# Altium schematic symbol library RDM_ALT_SCH.SchLib: 270 symbols (part 1 of 4)
Pins are listed as number, name and electrical type; pins without a type are passive.

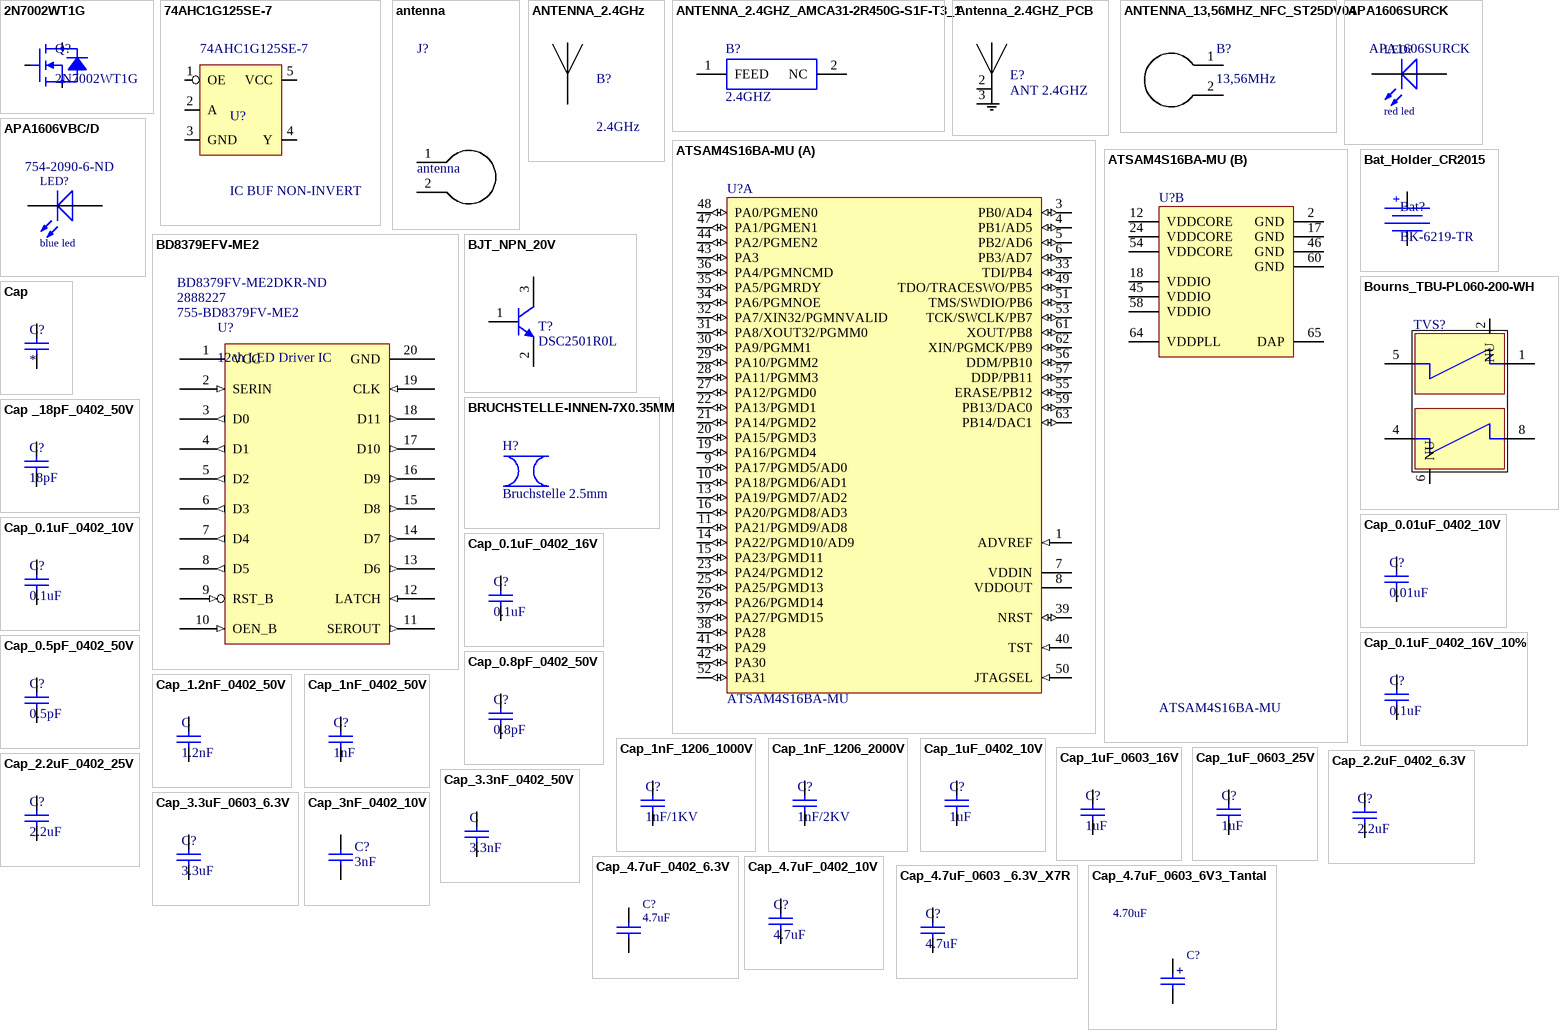
[diagram p0: symbols 2N7002WT1G to Cap_4.7uF_0603_6V3_Tantal]

## 2N7002WT1G
designator Q?
N-Channel 60V 310mA (Ta) 280mW (Tj) Surface Mount SC-70-3 (SOT323); Manufacturer: ON Semiconductor; tolerance: NA; Replaceable: no; value: 2N7002WT1G; voltage: 60V; Manufacturer PartNr: 2N7002WT1G; Footprint/Package: SC-70, SOT-323; Dielectric Grade: NA; ComponentLink1Description: mouser; ComponentLink1URL: https://www.mouser.ch/ProductDetail/Murata-Electronics/GCM155C71A105KE38D?qs=sGAEpiMZZMsh%252b1woXyUXj0FEAttKcN54ouz5zO04smg%3d; Supplier Part Number 1: 2N7002WT1GOSCT-ND; Supplier 1: Digi-Key; power: 280mW
footprint SOT323_2N7002WT1G (N_MOSFET)
pins: 1, 2, 3

## 74AHC1G125SE-7
designator U?, comment IC BUF NON-INVERT  Manufacturer PartNr: 74AHC1G125SE-7
Buffer, Non-Inverting 1 Element 1 Bit per Element 3-State Output SOT-353; Manufacturer: Diodes Incorporated; Replaceable: no; Footprint/Package: SOT353; ComponentLink1Description: mouser; ComponentLink1URL: https://www.mouser.ch/ProductDetail/Samtec/BBL-103-G-E?qs=sGAEpiMZZMs%252bGHln7q6pm5ZHNJhTjtr3eyJKd0ZImQM%3d; Supplier 2: Mouser; Supplier 1: Digi-Key; Supplier 3: Farnell; Supplier Part Number 1: SAM1104-03-ND; Supplier Part Number 2: 200-SL103G12; Supplier Part Number 3: 2019491
footprint SOT353
pins: 1 OE, 2 A, 3 GND, 4 Y, 5 VCC

## antenna
designator J?  (net tie)
Replaceable: no; Footprint/Package: *
footprint antenna_1_layer (antenna 1 layer)
footprint antenna_1_layer_2_rectangles_vers1 (antenna 1 layer)
footprint antenna_1_layer_2_sprials_vers1 (antenna 1 layer)
footprint antenna_1_layer_2_sprials_vers2 (antenna 1 layer)
footprint antenna_1_layer_2_sprials_vers3 (antenna 1 layer)
footprint antenna_1_layer_2_sprials_vers4 (antenna 1 layer)
footprint antenna_1_layer_3_sprials_vers1 (antenna 1 layer)
footprint antenna_1_layer_3_sprials_vers2 (antenna 1 layer)
footprint antenna_2_layer_2_sprials_vers1 (antenna 2 layer)
footprint antenna_2_layer_2_sprials_vers2 (antenna 2 layer)
pins: 1, 2

## ANTENNA_2.4GHz
designator B?, comment 2.4GHz
2.4 GHz PCB antenna for nordic nRF52811 chip; Remark: Adopted from Nordic nRF52811 reference layout; Replaceable: no; value: PCB Antenna (2.4GHz); Manufacturer PartNr: N/A; Manufacturer_Part_Number: N/A; Supplier 1: N/A; Supplier Part Number 1: N/A; Datasheet Link: https://infocenter.nordicsemi.com/index.jsp?topic=%2Fps_nrf52811%2Fref_circuitry.html; Footprint/Package: See datasheet
footprint ANTENNA_PAD_nRF52811 (open end one wire antenna for 2.4GHz)
pins: 1

## ANTENNA_2.4GHZ_AMCA31-2R450G-S1F-T3_1
designator B?, comment 2.4GHZ
ABRACON - AMCA31-2R450G-S1F-T3 - ANTENNA, CHIP, 2.45GHZ, 50 OHM, 1206; Geometry.Height: 1.4mm; Manufacturer_Name: ABRACON; Manufacturer_Part_Number: AMCA31-2R450G-S1F-T3; RS Part Number: *; RS Price/Stock: *; Arrow Part Number: AMCA31-2R450G-S1F-T3; Arrow Price/Stock: https://www.arrow.com/en/products/amca31-2r450g-s1f-t3/abracon; Datasheet Link: http://www.abracon.com/chip-antenna/AMCA31-2R450G-S1F-T.pdf
footprint ANTC3216X140N
pins: 1 FEED, 2 NC

## Antenna_2.4GHZ_PCB
designator E?, comment ANT 2.4GHZ
2,4GHz Bluetooth, Wi-Fi, Zigbee PCB HF-Antenna,1dBi SMD, Antenova; Manufacturer Part Number: A5839; Replaceable: no; Package: None; Manufacturer: Antenova; value: ANT 2.4GHZ; Supplier 1: Digi-Key; Supplier Part Number 1: 627-1011-1-ND; Footprint/Package: specific see datasheet; tolerance: -; power: -; Dielectric Grade: -; voltage: -
footprint XCVR_A5839 (RF ANT 2.4GHZ Antenova)
pins: 2 FED, 3 GND

## ANTENNA_13,56MHZ_NFC_ST25DV04
designator B?, comment 13,56MHz
Rectangular NFC (13,56MHZ) Antenna; Replaceable: no; Remark: Adopted from Texas Instruments tidu378a.pdf  reference design.; value: NFC Antenna (13.46MHz); Footprint/Package: See datasheet; Manufacturer: N/A; Manufacturer PartNr: N/A; Supplier 1: N/A; Supplier Part Number 1: N/A; Datasheet Link: http://www.ti.com/lit/ug/tidu378a/tidu378a.pdf
footprint ANTENNA_ST25_2_LAYER_1_RECT (3,56 MHZ NFC Antenna for Nordic ST25DV04K)
pins: 1, 2

## APA1606SURCK
designator LED?, comment red led  Manufacturer PartNr: APA1606SURCK
Red 630nm LED Indication - Discrete 1.95V 2-SMD, No Lead; Manufacturer: Kingbright; Replaceable: yes; Footprint/Package: specific, see datasheet; ComponentLink1Description: mouser; ComponentLink1URL: https://www.mouser.ch/ProductDetail/Kingbright/APA1606VBC-D?qs=%2fha2pyFaduhFkLoQLKawdk3E%252bl3FgSOr3Fif4NOc1lJmKkWDM5WlaQ%3d%3d; Supplier 1: Digi-Key; Supplier Part Number 1: 754-2090-6-ND
footprint Kingbright_SMD_2_RWH
footprint Kingbright_SMD_2_RWH_NETSCALE72_SENSORBAR (Kingbright_SMD_2_RWH)
pins: 1 K, 2 A

## APA1606VBC/D
designator LED?, comment blue led  Supplier Part Number 1: 754-2090-6-ND
blue, 1.6 x 0.6 mm Right Angle SMD Chip LED Lamp; Manufacturer: Kingbright; Manufacturer PartNr: APA1606VBC/D; Replaceable: yes; Footprint/Package: specific, see datasheet; ComponentLink1Description: mouser; ComponentLink1URL: https://www.mouser.ch/ProductDetail/Kingbright/APA1606VBC-D?qs=%2fha2pyFaduhFkLoQLKawdk3E%252bl3FgSOr3Fif4NOc1lJmKkWDM5WlaQ%3d%3d; Supplier 1: Digi-Key
footprint Kingbright_SMD_2_RWH
pins: 1 K, 2 A

## ATSAM4S16BA-MU
designator U?
AT91 ARM Cortex-M4 32-bit Microcontroller, 1MB Flash, 128KB SRAM, USB, 79 User I/Os, 64-Pin QFN, Industrial Grade (-40°C to 105°C), Pb-Free; Manufacturer: Atmel; Replaceable: no; DatasheetVersion: revA, Oct-2011; PackageVersion: revJ, Jul-2007; PackageReference: 64PS; PackageDescription: 64-Pin Quad Flat No-Lead (QFN) Sawn, 9 x 9 x 1.0 mm Body, 0.5 mm Pitch, Exposed Pad; Code_JEDEC: MO-220VMMD-3; ComponentLink1Description: Manufacturer URL; ComponentLink1URL: http://www.atmel.com/; ComponentLink2Description: SAM4S Series Datasheet; ComponentLink2URL: http://www.atmel.com/dyn/resources/prod_documents/11100.pdf; ComponentLink3Description: SAM4S Series Summary; ComponentLink3URL: http://www.atmel.com/dyn/resources/prod_documents/11100S.pdf; Manufacturer PartNr: ATSAM4S16BA-MU; Footprint/Package: QFN, 64-Leads, Body 9x9mm, Pitch 0.5mm, Thermal Pad 7.5x7.5mm, IPC Medium Density
footprint 64PS_N
part A pins: 1 ADVREF (in), 3 PB0/AD4 (io), 4 PB1/AD5 (io), 5 PB2/AD6 (io), 6 PB3/AD7 (io), 7 VDDIN (power), 8 VDDOUT (power), 9 PA17/PGMD5/AD0 (io), 10 PA18/PGMD6/AD1 (io), 11 PA21/PGMD9/AD8 (io), 13 PA19/PGMD7/AD2 (io), 14 PA22/PGMD10/AD9 (io), 15 PA23/PGMD11 (io), 16 PA20/PGMD8/AD3 (io), 19 PA16/PGMD4 (io), 20 PA15/PGMD3 (io), 21 PA14/PGMD2 (io), 22 PA13/PGMD1 (io), 23 PA24/PGMD12 (io), 25 PA25/PGMD13 (io), 26 PA26/PGMD14 (io), 27 PA12/PGMD0 (io), 28 PA11/PGMM3 (io), 29 PA10/PGMM2 (io), 30 PA9/PGMM1 (io), 31 PA8/XOUT32/PGMM0 (io), 32 PA7/XIN32/PGMNVALID (io), 33 TDI/PB4 (io), 34 PA6/PGMNOE (io), 35 PA5/PGMRDY (io), 36 PA4/PGMNCMD (io), 37 PA27/PGMD15 (io), 38 PA28 (io), 39 NRST (io), 40 TST (in), 41 PA29 (io), 42 PA30 (io), 43 PA3 (io), 44 PA2/PGMEN2 (io), 47 PA1/PGMEN1 (io), 48 PA0/PGMEN0 (io), 49 TDO/TRACESWO/PB5 (io), 50 JTAGSEL (in), 51 TMS/SWDIO/PB6 (io), 52 PA31 (io), 53 TCK/SWCLK/PB7 (io), 55 ERASE/PB12 (io), 56 DDM/PB10 (io), 57 DDP/PB11 (io), 59 PB13/DAC0 (io), 61 XOUT/PB8 (io), 62 XIN/PGMCK/PB9 (io), 63 PB14/DAC1 (io)
part B pins: 2 GND (power), 12 VDDCORE (power), 17 GND (power), 18 VDDIO (power), 24 VDDCORE (power), 45 VDDIO (power), 46 GND (power), 54 VDDCORE (power), 58 VDDIO (power), 60 GND (power), 64 VDDPLL (power), 65 DAP (power)

## Bat_Holder_CR2015
designator Bat?, comment BK-6219-TR
Battery retainer coin 20mm SMD (CR2025); Manufacturer: MPD (Memory Protection Devices); Replaceable: no; value: Bat retainer; ComponentLink1Description: digykey; ComponentLink1URL: https://www.digikey.ch/product-detail/de/mpd-memory-protection-devices/BK-6219-TR/BK-6219-TR-ND/8119239; Footprint/Package: See datasheet; Manufacturer PartNr: BK-6219-TR; Supplier 1: Digi-Key; Supplier Part Number 1: BK-6219-TR-ND; Datasheet Link: http://www.memoryprotectiondevices.com/datasheets/BK-6219-TR-datasheet.pdf
footprint BAT_HOLDER_CR2025 (BATTERY RETAINER COIN 20MM SMD)
pins: 1, 2
text: +

## BD8379EFV-ME2
designator U?, comment 12ch LED Driver IC  Supplier Part Number 1: 755-BD8379FV-ME2  Supplier Part Number 2: 2888227  Supplier Part Number 3: BD8379FV-ME2DKR-ND
LED Lighting Drivers 12ch LED Drvr IC 3-5.5V; HTSSOP-B20; Manufacturer: ROHM Semiconductor; Manufacturer PartNr: BD8379FV-ME2; Replaceable: no; ComponentLink1Description: mouser; ComponentLink1URL: https://www.mouser.ch/ProductDetail/ROHM-Semiconductor/BD8379FV-ME2?qs=sGAEpiMZZMsE420DPIasPr3Oyx8hJUvEOZy8Z%252b2LZIkkhTSvSLIdLA%3d%3d; Footprint/Package: SSOP-B-20; Supplier 1: Mouser; Supplier 2: Farnell; Supplier 3: Digi-Key
footprint BD8379EFV-ME2_HTSSOP-B20 (TSOP, 20-Leads, Body 6.40x4.40mm, Pitch 0.65mm, IPC Medium Density)
pins: 1 VCC (power), 2 SERIN (in), 3 D0 (out), 4 D1 (out), 5 D2 (out), 6 D3 (out), 7 D4 (out), 8 D5 (out), 9 RST_B (in), 10 OEN_B (in), 11 SEROUT (out), 12 LATCH (in), 13 D6 (out), 14 D7 (out), 15 D8 (out), 16 D9 (out), 17 D10 (out), 18 D11 (out), 19 CLK (in), 20 GND

## BJT_NPN_20V
designator T?, comment DSC2501R0L
Bipolar (BJT) Transistor NPN 20V 500mA 150MHz 200mW Surface Mount Mini3-G3-B-B; Manufacturer: Panasonic Electronic Components; Replaceable: no; Supplier 1: Digi-Key; Manufacturer PartNr: DSC2501R0L; Footprint/Package: TO-236-3, SC-59, SOT-23-3; Supplier Part Number 1: DSC2501R0LCT-ND; value: DSC2501R0L; voltage: 20V
footprint SOT-23/TO-236AA (TRANS NPN 20V 0.5A MINI3)
pins: 1 B, 2 E, 3 C

## Bourns_TBU-PL060-200-WH
designator TVS?, comment TBU-CA065-200-WH  (value not drawn)
TBU-PL Series dual 50 ohm Surge Suppressors, bi-directional; Manufacturer: Bourns; Manufacturer PartNr: TBU-PL060-200-WH; Replaceable: no; value: TBU-PL060-200-WH; voltage: 350V; power: NA; Supplier 1: Mouser; Footprint/Package: DFN; Supplier Part Number 1: 652-TBU-PL060-200-WH; Dielectric Grade: NA
footprint Bourns_TBU_PL060_WH (TBU-PL060-200-WH)
pins: 1, 2 NU, 4, 5, 6 NU, 8

## BRUCHSTELLE-INNEN-7X0.35MM
designator H?, comment Bruchstelle 2.5mm
Bruchstelle 3mm; Manufacturer: NK; Manufacturer PartNr: Bruchstelle 3mm; ShortDescription: Bruchstelle 3mm
footprint Bruchstelle_7X0.5MM

## Cap
designator C?
Multilayer Ceramic Capacitors MLCC; value: *; tolerance: *; voltage: *; Replaceable: *; Dielectric Grade: *; Manufacturer: *; Manufacturer PartNr: *; Footprint/Package: *
footprint Ceramic Capacitor 1210 EIA
footprint Ceramic Capacitor 1206 EIA
footprint Ceramic Capacitor 0805 EIA
footprint Ceramic Capacitor 0603 EIA
footprint Ceramic Capacitor 0402 EIA
pins: 1, 2

## Cap _18pF_0402_50V
designator C?, comment 18pF
18pF ±5% 50V Ceramic Capacitor C0G, NP0 0402 (1005 Metric), Murata; Manufacturer PartNr: GJM1555C1H180JB01D; Dielectric: C0G/NP0; voltage: 50VDC; Replaceable: no; Supplier 1: Digi-Key; Supplier Part Number 1: 490-3119-2-ND; Manufacturer: Murata; Footprint/Package: 0402 (1005 metric); value: 18pF; tolerance: 5%; ComponentLink1URL: http://search.murata.co.jp/Ceramy/image/img/A01X/G101/ENG/GJM1555C1H180JB01-01.pdf; ComponentLink1Description: http://search.murata.co.jp/Ceramy/image/img/A01X/G101/ENG/GJM1555C1H180JB01-01.pdf
pins: 1, 2

## Cap_0.01uF_0402_10V
designator C?, comment 0.01uF
SMD/SMT WCAP-CSGP 0.01uF 0402 10% 10V MLCC; Manufacturer: Wurth Electronics; Manufacturer PartNr: 885012205012; voltage: 10VDC; Replaceable: yes; Dielectric Grade: X7R; value: 0.01uF; tolerance: 10%; ComponentLink1Description: mouser; ComponentLink1URL: https://www.mouser.ch/ProductDetail/Wurth-Electronics/885012205012?qs=%2fha2pyFadugw7Bx5e6Fm8E9Tl5BwARhs%2fZgZBwU9Lt9i4SI58FWkO%2fGWTrc%2fVjVaOTikVrFA6u%2fDYyVQwAJERsgVVqUKkSXa; Footprint/Package: 0402; Supplier 1: Mouser; Supplier 2: Farnell; Supplier 3: Digi-Key; Supplier Part Number 3: 732-7507-1-ND; Supplier Part Number 2: 2533974; Supplier Part Number 1: 710-885012205012
footprint Ceramic Capacitor 0402 EIA
pins: 1, 2

## Cap_0.1uF_0402_10V
designator C?, comment 0.1uF
0.1µF ±20% 10V Ceramic Capacitor X5R 0402 (1005 Metric); Manufacturer: Wurth Electronics; Manufacturer PartNr: 885012105010; voltage: 10VDC; Replaceable: yes; value: 0.1uF; tolerance: 20%; Footprint/Package: 0402; Dielectric Grade: X5R; ComponentLink1Description: mouser; ComponentLink1URL: https://www.mouser.ch/ProductDetail/Wurth-Electronics/885012105010?qs=sGAEpiMZZMs0AnBnWHyRQEGbLOF2VP1ihL84oCjXnlO407YOHi%2fQbw%3d%3d; Supplier 3: Mouser; Supplier 2: Farnell; Supplier 1: Digi-Key; Supplier Part Number 1: 732-7487-1-ND; Supplier Part Number 2: 2533928; Supplier Part Number 3: 710-885012105010
footprint Ceramic Capacitor 0402 EIA
pins: 1, 2

## Cap_0.1uF_0402_16V
designator C?, comment 0.1uF
0.1µF ±20% 16V Ceramic Capacitor X7R 0402 (1005 Metric); Manufacturer: KEMET; Manufacturer PartNr: C0402C104M4RACAUTO; voltage: 16VDC; Replaceable: yes; value: 0.1uF; tolerance: 20%; Footprint/Package: 0402 (1005 Metric); Dielectric Grade: X7R; ComponentLink1Description: mouser; ComponentLink1URL: https://www.mouser.ch/ProductDetail/KEMET/C0402C104M4RACAUTO?qs=sGAEpiMZZMs0AnBnWHyRQB295tntAovf0Dzw3tVX6zRfKTwHFThmZw%3d%3d; Supplier 1: Digi-Key; Supplier Part Number 1: 399-13707-1-ND
footprint Ceramic Capacitor 0402 EIA
pins: 1, 2

## Cap_0.1uF_0402_16V_10%
designator C?, comment 0.1uF
0.1µF ±10% 16V Ceramic Capacitor X7R 0402 (1005 Metric); Manufacturer: Yageo; Manufacturer PartNr: CC0402KRX7R7BB104; voltage: 16VDC; Replaceable: yes; value: 0.1uF; tolerance: 10%; Footprint/Package: 0402 (1005 Metric); Dielectric Grade: X7R; ComponentLink1Description: mouser; ComponentLink1URL: https://www.mouser.ch/ProductDetail/KEMET/C0402C104M4RACAUTO?qs=sGAEpiMZZMs0AnBnWHyRQB295tntAovf0Dzw3tVX6zRfKTwHFThmZw%3d%3d; Supplier 1: Digi-Key; Supplier Part Number 1: 311-1338-1-ND
footprint Ceramic Capacitor 0402 EIA
pins: 1, 2

## Cap_0.5pF_0402_50V
designator C?, comment 0.5pF
0.5pF ±0.05pF 50V Ceramic Capacitor C0G, NP0 0402 (1005 Metric), Murata; Manufacturer PartNr: GJM1555C1HR50WB01D; Dielectric Grade: C0G/NP0; Voltage: 50 VDC; Replaceable: yes; Supplier 1: Digi-Key; Supplier Part Number 1: 490-11250-1-ND; Manufacturer: Murata; Footprint/Package: 0402 (1005 metric); value: 0.5pF; tolerance: ±0.05pF; power: -; ComponentLink1Description: Datasheet; ComponentLink1URL: https://search.murata.co.jp/Ceramy/image/img/A01X/G101/ENG/GJM1555C1HR50WB01-01.pdf
footprint Ceramic Capacitor 0402 EIA
pins: 1, 2

## Cap_0.8pF_0402_50V
designator C?, comment 0.8pF
0.8pF ±0.1pF 50V Ceramic Capacitor C0G, NP0 0402 (1005 Metric); Manufacturer: Murata; Manufacturer PartNr: GJM1555C1HR80BB01D; Dielectric Grade: C0G/NP0; Voltage: 50 VDC; Replaceable: yes; Supplier 1: Digi-Key; Supplier Part Number 1: 490-6080-1-ND; Footprint/Package: 0402 (1005 metric); value: 0.8pF; ComponentLink1URL: http://search.murata.co.jp/Ceramy/image/img/A01X/G101/ENG/GJM1555C1HR80BB01-01.pdf; ComponentLink1Description: http://search.murata.co.jp/Ceramy/image/img/A01X/G101/ENG/GJM1555C1HR80BB01-01.pdf; ComponentLink2URL: http://search.murata.co.jp/Ceramy/image/img/w_hinm/L0005E.pdf; ComponentLink2Description: http://search.murata.co.jp/Ceramy/image/img/w_hinm/L0005E.pdf; ComponentLink3URL: http://psearch.murata.com/capacitor/product/GJM1555C1HR80BB01%23.pdf; ComponentLink3Description: http://psearch.murata.com/capacitor/product/GJM1555C1HR80BB01%23.pdf; ComponentLink4URL: https://www.verical.com/server-webapp/html/getDatasheet?partID=75095; ComponentLink4Description: https://www.verical.com/server-webapp/html/getDatasheet?partID=75095; tolerance: ±0.1pF; power: -
footprint Ceramic Capacitor 0402 EIA
pins: 1, 2

## Cap_1.2nF_0402_50V
designator C, comment 1.2nF
1200pF ±5% 50V Ceramic Capacitor C0G, NP0 0402 (1005 Metric); Manufracturer: KEMET; Manufacturer PartNr: C0402C122J5GACTU; voltage: 50VDC; Replaceable: yes; tolerance: 5%; ComponentLink1Description: mouser; ComponentLink1URL: https://www.mouser.ch/ProductDetail/Murata-Electronics/GRM155R60J475ME47D?qs=sGAEpiMZZMs0AnBnWHyRQIE6q%2f4qwWvwbJmEUwav8%2f4%3d; Dielectric Grade: C0G; Footprint/Package: 0402 (1005 metric); Supplier 2: Mouser; Supplier Part Number 2: 80-C0402C122J5G; value: 1.2nF; Supplier 1: Digi-Key; Supplier Part Number 1: 399-7334-1-ND
footprint Ceramic Capacitor 0402 EIA
pins: 1, 2

## Cap_1nF_0402_50V
designator C?, comment 1nF
1000pF ±20% 50V Ceramic Capacitor X5R 0402 (1005 Metric); Manufacturer: TDK Corporation; Manufacturer PartNr: C1005X5R1H102M050BA; voltage: 50VDC; Replaceable: yes; value: 1nF; tolerance: ±20%; Dielectric Grade: X5R; Footprint/Package: 0402 (1005 metric); ComponentLink1Description: digikey; ComponentLink1URL: https://www.digikey.com/product-detail/en/tdk-corporation/C1005X5R1H102M050BA/445-13843-6-ND/3959939; Supplier Part Number 1: 445-13843-1-ND; Supplier 1: Digi-Key
footprint Ceramic Capacitor 0402 EIA
pins: 1, 2

## Cap_1nF_1206_1000V
designator C?, comment 1nF/1KV
1000pF ±10% 1000V (1kV) Ceramic Capacitor X7R 1206 (3216 Metric) /; Manufacturer: KEMET; Manufacturer PartNr: C1206C102KDRACAUTO; Replaceable: yes; value: 1nF/1KV; tolerance: ±10%; voltage: 1kV; Dielectric Grade: X7R; Footprint/Package: 1206 (3216 Metric); Supplier 1: Digi-Key; Supplier Part Number 1: 399-16677-1-ND
footprint Ceramic Capacitor 1206 EIA
pins: 1, 2

## Cap_1nF_1206_2000V
designator C?, comment 1nF/2KV
1000pF ±10% 2000V (2kV) Ceramic Capacitor X7R 1206 (3216 Metric); Manufacturer: AVX Corporation; Manufacturer PartNr: 1206GC102KAZ1A; Replaceable: yes; value: 1nF/2KV; tolerance: ±10%; voltage: 2kV; Dielectric Grade: X7R; Footprint/Package: 1206 (3216 Metric); Supplier 1: Digi-Key; Supplier Part Number 1: 478-4600-1-ND
footprint Ceramic Capacitor 1206 EIA
pins: 1, 2

## Cap_1uF_0402_10V
designator C?, comment 1uF
1µF ±10% 10V Ceramic Capacitor X7S 0402 (1005 Metric); Manufacturer: Murata; Manufacturer PartNr: GCM155C71A105KE38D; voltage: 10VDC; Replaceable: yes; value: 1uF; tolerance: 10%; Footprint/Package: 0402 (1005 metric); Dielectric Grade: X7S; ComponentLink1Description: mouser; ComponentLink1URL: https://www.mouser.ch/ProductDetail/Murata-Electronics/GCM155C71A105KE38D?qs=sGAEpiMZZMsh%252b1woXyUXj0FEAttKcN54ouz5zO04smg%3d; Supplier Part Number 1: 490-13409-1-ND; Supplier 1: Digi-Key
footprint Ceramic Capacitor 0402 EIA
pins: 1, 2

## Cap_1uF_0603_16V
designator C?, comment 1uF
1µF ±10% 16V Ceramic Capacitor X5R 0603 (1608 Metric); Manufacturer: Yageo; Manufacturer PartNr: CC0603KRX5R7BB105; voltage: 16VDC; Replaceable: yes; value: 1uF; tolerance: 10%; Footprint/Package: 0603 (1608 Metric); Dielectric Grade: X5R; ComponentLink1Description: mouser; ComponentLink1URL: https://www.mouser.ch/ProductDetail/Murata-Electronics/GCM155C71A105KE38D?qs=sGAEpiMZZMsh%252b1woXyUXj0FEAttKcN54ouz5zO04smg%3d; Supplier Part Number 1: 311-1444-1-ND; Supplier 1: Digi-Key
footprint Ceramic Capacitor 0402 EIA
pins: 1, 2

## Cap_1uF_0603_25V
designator C?, comment 1uF
1µF ±10% 25V Ceramic Capacitor X5R 0603 (1608 Metric); Manufacturer: Kemet; Manufacturer PartNr: C0603C105K3PACTU; voltage: 25VDC; Replaceable: yes; value: 1uF; tolerance: 10%; Footprint/Package: 0603 (1608 metrisch); Dielectric Grade: X5R; ComponentLink1Description: mouser; ComponentLink1URL: https://www.mouser.ch/ProductDetail/Murata-Electronics/GCM155C71A105KE38D?qs=sGAEpiMZZMsh%252b1woXyUXj0FEAttKcN54ouz5zO04smg%3d; Supplier Part Number 1: 399-7846-1-ND; Supplier 1: Digi-Key
footprint Ceramic Capacitor 0603 EIA
pins: 1, 2

## Cap_2.2uF_0402_6.3V
designator C?, comment 2.2uF
Multilayer Ceramic Capacitors MLCC - SMD/SMT 0402 2.2uF 6.3volts *Derate Voltage/Temp; Manufacturer: Murata; Manufacturer PartNr: GRM155R60J225ME15D; tolerance: ±20%; voltage: 6.3VDC; Replaceable: yes; Dielectric Grade: X5R; value: 2.2uF; Footprint/Package: 0402; ComponentLink1Description: digikey; ComponentLink1URL: https://www.digikey.com/product-detail/en/murata-electronics-north-america/GRM155R61E225ME15D/490-10457-2-ND/5027542; Supplier 1: Mouser; Supplier Part Number 1: 81-GRM155R60J225ME5D
footprint Ceramic Capacitor 0402 EIA
pins: 1, 2

## Cap_2.2uF_0402_25V
designator C?, comment 2.2uF
2.2µF ±20% 25V Ceramic Capacitor X5R 0402 (1005 Metric); Manufacturer: Murata; Manufacturer PartNr: GRM155R61E225ME15D; voltage: 25VDC; Replaceable: yes; value: 2.2uF; tolerance: ±20%; Dielectric Grade: X5R; Footprint/Package: 0402; ComponentLink1Description: digikey; ComponentLink1URL: https://www.digikey.com/product-detail/en/murata-electronics-north-america/GRM155R61E225ME15D/490-10457-2-ND/5027542; Supplier 1: Digi-Key; Supplier Part Number 1: 490-10457-1-ND
footprint Ceramic Capacitor 0402 EIA
pins: 1, 2

## Cap_3.3nF_0402_50V
designator C, comment 3.3nF
Multilayer Ceramic Capacitors MLCC - SMD/SMT 0402 3300pF 50volts X7R 5%; Manufracturer: Murata Electronics; Manufacturer PartNr: GCM155R71H332JA37D; voltage: 50VDC; Replaceable: yes; tolerance: 5%; ComponentLink1Description: mouser; ComponentLink1URL: https://www.mouser.ch/ProductDetail/Murata-Electronics/GRM155R60J475ME47D?qs=sGAEpiMZZMs0AnBnWHyRQIE6q%2f4qwWvwbJmEUwav8%2f4%3d; Dielectric Grade: X7R; Footprint/Package: 0402 (1005 metric); Supplier 2: Mouser; Supplier Part Number 2: 81-GCM155R71H332JA7D; value: 3.3nF; Supplier 1: Digi-Key; Supplier Part Number 1: 490-16426-1-ND
footprint Ceramic Capacitor 0402 EIA
pins: 1, 2

## Cap_3.3uF_0603_6.3V
designator C?, comment 3.3uF
3.3µF ±20% 6.3V Ceramic Capacitor X5R 0603 (1608 Metric); Manufacturer: KEMET; Manufacturer PartNr: C0603C335M9PAC7867; voltage: 6.3VDC; Replaceable: no; Supplier 1: Digi-Key; Supplier Part Number 1: 399-5502-6-ND; Footprint/Package: 0603 (1608 metric); value: 3.3uF; Tolerance: 20%; Dielectric: X5R; ComponentLink1URL: http://uk.rs-online.com/webdocs/1528/0900766b81528d26.pdf; ComponentLink1Description: http://uk.rs-online.com/webdocs/1528/0900766b81528d26.pdf
pins: 1, 2

## Cap_3nF_0402_10V
designator C?, comment 3nF
3000pF, 3nF, ±5% 10V Ceramic Capacitor U2J 0402 (1005 Metric); Manufacturer: Murata; Manufacturer PartNr: GRM1557U1A302JA01D; Replaceable: yes; power: NA; Supplier 1: Digi-Key; Supplier Part Number 1: 490-8243-2-ND; Footprint/Package: 0402 (1005 Metric); value: 3nF; tolerance: 5%; voltage: 10V; Dielectric Grade: U2J; ComponentLink1URL: http://psearch.murata.com/capacitor/product/GRM1557U1A302JA01%23.pdf; ComponentLink1Description: http://psearch.murata.com/capacitor/product/GRM1557U1A302JA01%23.pdf; ComponentLink2URL: https://www.murata.com/~/media/webrenewal/support/library/catalog/products/capacitor/mlcc/c02e.ashx?la=en-us; ComponentLink2Description: https://www.murata.com/~/media/webrenewal/support/library/catalog/products/capacitor/mlcc/c02e.ashx?la=en-us
footprint Ceramic Capacitor 0402 EIA
pins: 1, 2

## Cap_4.7uF_0402_6.3V
designator C?, comment 4.7uF
4.7µF ±20% 6.3V Ceramic Capacitor X5R 0402 (1005 Metric); Manufacturer: Murata; Manufacturer PartNr: GRM155R60J475ME47D; voltage: 6.3VDC; Replaceable: yes; tolerance: ±20%; Supplier 1: Digi-Key; Supplier Part Number 1: 490-5915-1-ND; Dielectric Grade: X5R; value: 4.7uF; Footprint/Package: 0402 (1005 metric)
footprint CAP-0402[1005] - RFL (SMD Chip 0402 - CAP - RFL)
pins: 1 Pos, 2 Neg

## Cap_4.7uF_0402_10V
designator C?, comment 4.7uF
4.7µF ±10% 10V Ceramic Capacitor X5R 0402 (1005 Metric); Manufracturer: Samsung Electro-Mechanics; Manufacturer PartNr: CL05A475KP5NRNC; voltage: 10VDC; Replaceable: yes; tolerance: 10%; ComponentLink1Description: mouser; ComponentLink1URL: https://www.mouser.ch/ProductDetail/Murata-Electronics/GRM155R60J475ME47D?qs=sGAEpiMZZMs0AnBnWHyRQIE6q%2f4qwWvwbJmEUwav8%2f4%3d; Dielectric Grade: X5R; Footprint/Package: 0402 (1005 metric); Supplier 1: Digi-Key; Supplier Part Number 1: 1276-1480-1-ND; value: 4.7uF
footprint Ceramic Capacitor 0402 EIA
pins: 1, 2

## Cap_4.7uF_0603 _6.3V_X7R
designator C?, comment 4.7uF
4.7µF ±10% 6.3V Ceramic Capacitor X7R 0603 (1608 Metric); Manufracturer: Taiyo Yuden; Manufacturer PartNr: JMK107BB7475KA-T; voltage: 6.3VDC; Replaceable: yes; tolerance: ±10%; ComponentLink1Description: mouser; ComponentLink1URL: https://www.mouser.ch/ProductDetail/Murata-Electronics/GRM155R60J475ME47D?qs=sGAEpiMZZMs0AnBnWHyRQIE6q%2f4qwWvwbJmEUwav8%2f4%3d; Dielectric Grade: X7R; Footprint/Package: 0603 (1608 metric); Supplier 1: Digi-Key; Supplier Part Number 1: 587-5870-1-ND; value: 4.7uF
footprint Ceramic Capacitor 0402 EIA
pins: 1, 2

## Cap_4.7uF_0603_6V3_Tantal
designator C?, comment 4.70uF
4.7µF Molded Tantalum Capacitors 6.3V 0603 (1608 Metric) 7.5Ohm; Manufacturer: AVX Corporation; Manufacturer PartNr: TACL475K006XTA; Replaceable: yes; tolerance: 10 %; Dielectric Grade: TAC; voltage: 6.3V; Footprint/Package: 0603 (1608 Metric); value: 4.70uF; Supplier 1: Digi-Key; Supplier Part Number 1: 478-7522-1-ND
footprint CAPC1608X90 (TACL475K006XTA)
pins: 1 Pos, 2 Neg
text: +

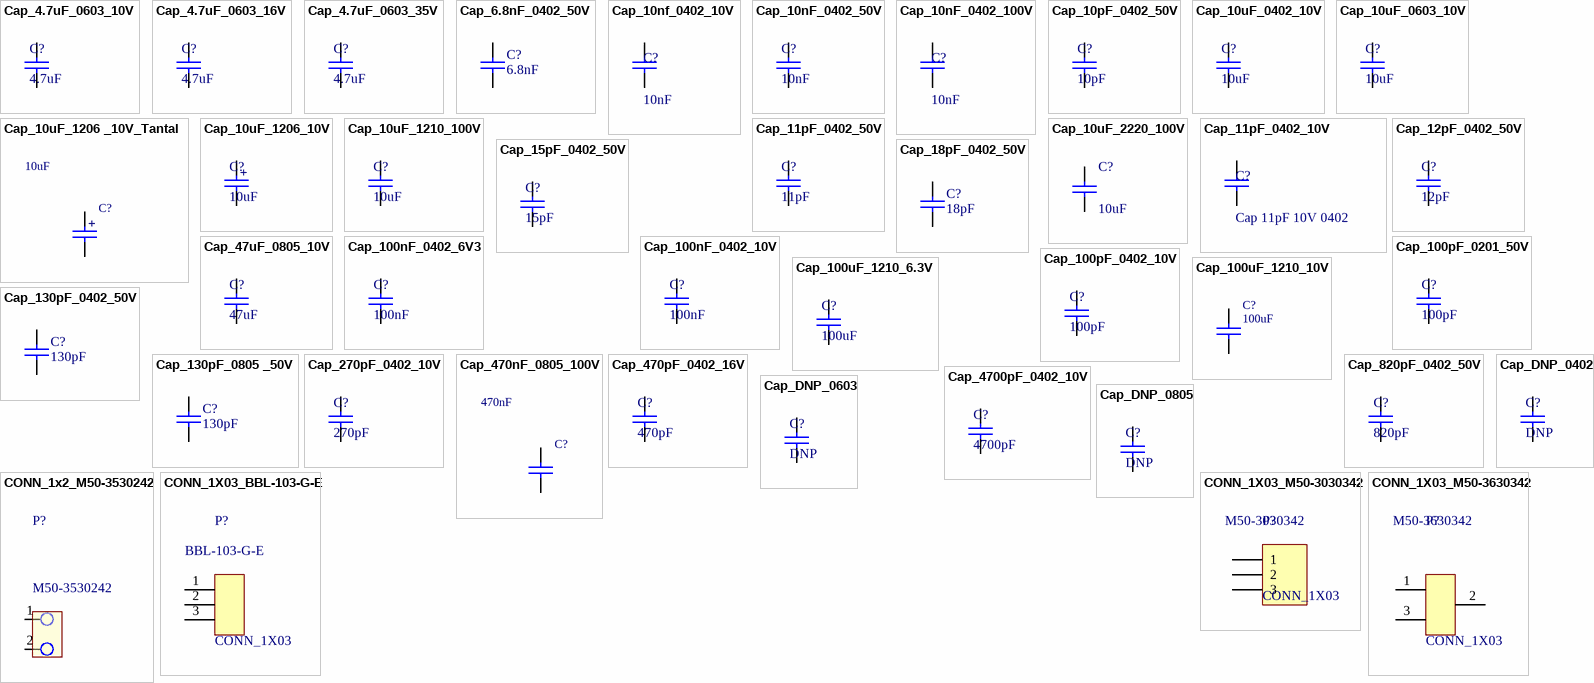
[diagram p1: symbols Cap_4.7uF_0603_10V to CONN_1X03_M50-3630342]

## Cap_4.7uF_0603_10V
designator C?, comment 4.7uF
4.7µF ±10% 10V Ceramic Capacitor X5R 0603 (1608 Metric); Manufracturer: KEMET; Manufacturer PartNr: C0603C475K8PACTU; voltage: 10VDC; Replaceable: yes; value: 4.7uF; tolerance: 10%; Dielectric Grade: X5R; Footprint/Package: 0603 (1608 metric); Supplier 1: Digi-Key; Supplier Part Number 1: 399-5503-1-ND
footprint Ceramic Capacitor 0603 EIA
pins: 1, 2

## Cap_4.7uF_0603_16V
designator C?, comment 4.7uF
4.7µF ±10% 16V Ceramic Capacitor X5R 0603 (1608 Metric); Manufracturer: Murata Electronics; Manufacturer PartNr: GRM188R61C475KAAJD; voltage: 16 VDC; Replaceable: yes; value: 4.7uF; tolerance: 10%; Dielectric Grade: X5R; Footprint/Package: 0603 (1608 metric); Supplier 1: Digi-Key; Supplier Part Number 1: 490-10481-1-ND
footprint Ceramic Capacitor 0603 EIA
pins: 1, 2

## Cap_4.7uF_0603_35V
designator C?, comment 4.7uF
4.7µF ±10% 35V Ceramic Capacitor X5R 0603 (1608 Metric); Manufracturer: Murata Electronics; Manufacturer PartNr: GRM188R6YA475KE15D; voltage: 35 VDC; Replaceable: yes; value: 4.7uF; tolerance: 10%; Dielectric Grade: X5R; Footprint/Package: 0603 (1608 metric); Supplier 1: Digi-Key; Supplier Part Number 1: 490-7205-1-ND; power: -
footprint Ceramic Capacitor 0603 EIA
pins: 1, 2

## Cap_6.8nF_0402_50V
designator C?, comment 6.8nF
6800pF ±10% 50V Ceramic Capacitor X7R 0402 (1005 Metric); Manufacturer: KEMET; Manufacturer PartNr: C0402C682K5RACTU; voltage: 50VDC; Replaceable: yes; Supplier 1: Digi-Key; Supplier Part Number 1: 399-3074-1-ND; Footprint/Package: 0402 (1005 metric); tolerance: 10%; value: 6.8nF; ComponentLink1URL: http://www.mouser.com/ds/2/400/lcc_commercial_general_en-837201.pdf; ComponentLink1Description: http://www.mouser.com/ds/2/400/lcc_commercial_general_en-837201.pdf; ComponentLink2URL: https://product.tdk.com/info/en/documents/chara_sheet/C1005X7R1H682K050BA.pdf; ComponentLink2Description: https://product.tdk.com/info/en/documents/chara_sheet/C1005X7R1H682K050BA.pdf; ComponentLink3URL: https://product.tdk.com/en/products/common/pdf/mlcc_partnumber_description.pdf; ComponentLink3Description: https://product.tdk.com/en/products/common/pdf/mlcc_partnumber_description.pdf; Dielectric Grade: X7R
footprint Ceramic Capacitor 0402 EIA
pins: 1, 2

## Cap_10nf_0402_10V
designator C?, comment 10nF
0.01uF, 10V, Ceramic Capa, SMD/SMT 10V X5R 0402 10%; Manufacturer: KMET; Manufacturer PartNr: C0402C103K8PAC7867; voltage: 10VDC; Replaceable: yes; Technology: SMT; Footprint/Package: 0402 (1005 Metric); Dielectric Grade: X5R; value: 10nF; tolerance: ±10%; Supplier 1: Digi-Key; Supplier Part Number 1: 399-14869-1-ND
footprint CAPC0402(1005)60_M (Chip Capacitor, Body 1.0x0.5mm, Height 0.6mm, IPC Low Density)
footprint CAPC0402(1005)60_L (Chip Capacitor, Body 1.0x0.5mm, Height 0.6mm, IPC High Density)
footprint CAPC0402(1005)60_N (Chip Capacitor, Body 1.0x0.5mm, Height 0.6mm, IPC Medium Density)
pins: 1, 2
1 alternate drawing of the same symbol

## Cap_10nF_0402_50V
designator C?, comment 10nF
10000pF ±10% 50V Keramikkondensatoren X7R 0402 (1005 metrisch) CL05B103KB5NNNC; Manufacturer: Samsung Electro-Mechanics; voltage: 50VDC; Replaceable: yes; tolerance: ±10%; Dielectric Grade: X7R; Supplier Part Number 1: 1276-1028-2-ND; Supplier 1: Digi-Key; Manufacturer PartNr: CL05B103KB5NNNC; value: 10nF; Footprint/Package: 0402 (1005 metric)
footprint Ceramic Capacitor 0402 EIA
pins: 1, 2

## Cap_10nF_0402_100V
designator C?, comment 10nF
10nF ±20% 100V Ceramic Capacitor X7S 0402 (1005 Metric); Manufacturer: TDK Corporation; Manufacturer PartNr: CGA2B3X7S2A103M050BB; voltage: 100VDC; Replaceable: yes; Footprint/Package: 0402 (1005 Metric); Dielectric Grade: X7S; value: 10nF; tolerance: ±20%; Supplier 1: Digi-Key; Supplier Part Number 1: 445-12286-1-ND
footprint CAPC0402(1005)60_M (Chip Capacitor, Body 1.0x0.5mm, Height 0.6mm, IPC Low Density)
footprint CAPC0402(1005)60_L (Chip Capacitor, Body 1.0x0.5mm, Height 0.6mm, IPC High Density)
footprint CAPC0402(1005)60_N (Chip Capacitor, Body 1.0x0.5mm, Height 0.6mm, IPC Medium Density)
pins: 1, 2
1 alternate drawing of the same symbol

## Cap_10pF_0402_50V
designator C?, comment 10pF
10pF ±1% 50V Ceramic Capacitor C0G, NP0 0402 (1005 Metric); Manufracturer: Murata Electronics; Manufacturer PartNr: GJM1555C1H100FB01D; voltage: 50VDC; Replaceable: yes; Dielectric Grade: C0G (NP0); tolerance: 1%; ComponentLink1Description: mouser; ComponentLink1URL: https://www.mouser.ch/ProductDetail/Murata-Electronics/GRM155R60J475ME47D?qs=sGAEpiMZZMs0AnBnWHyRQIE6q%2f4qwWvwbJmEUwav8%2f4%3d; Footprint/Package: 0402 (1005 metric); Supplier 2: Mouser; Supplier Part Number 2: 81-GJM1555C1H100FB01; value: 10pF; Supplier 1: Digi-Key; Supplier Part Number 1: 0402 (1005 Metric)
footprint Ceramic Capacitor 0402 EIA
pins: 1, 2

## Cap_10uF_0402_10V
designator C?, comment 10uF
10µF ±20% 10V Ceramic Capacitor X5R 0402 (1005 Metric); Manufacturer: Samsung Electro-Mechanics; Manufacturer PartNr: CL05A106MP8NUB8; voltage: 10VDC; Replaceable: yes; value: 10uF; tolerance: 20%; ComponentLink1Description: mouser; ComponentLink1URL: https://www.mouser.ch/ProductDetail/Murata-Electronics/ZRB15XR61A106ME01D?qs=sGAEpiMZZMs0AnBnWHyRQN7%2fAA2D2lPPC0%2fdyv23S%2fU%252bBeuYI5b1UA%3d%3d; Footprint/Package: 0402 (1005 metric); Dielectric Grade: X5R; Supplier 1: Digi-Key; Supplier Part Number 1: 1276-6830-1-ND
footprint Ceramic Capacitor 0402 EIA
pins: 1, 2

## Cap_10uF_0603_10V
designator C?, comment 10uF
10µF ±20% 10V Ceramic Capacitor X7T 0603 (1608 Metric); Manufacturer: Murata; Manufacturer PartNr: GRM188D71A106MA73D; voltage: 10VDC; Replaceable: yes; value: 10uF; tolerance: 20%; Footprint/Package: 0603 (1608 metric); Dielectric Grade: X7T; Supplier 1: Digi-Key; Supplier Part Number 1: 490-7200-1-ND
footprint Ceramic Capacitor 0603 EIA
pins: 1, 2

## Cap_10uF_1206 _10V_Tantal
designator C?, comment 10uF
10µF Molded Tantalum Capacitors 10V 1206 (3216 Metric) 3.4Ohm; Manufacturer: Vishay Sprague; Manufacturer PartNr: 293D106X9010A2TE3; Replaceable: yes; tolerance: ±10%; Dielectric Grade: TANTAL; voltage: 10V; Footprint/Package: 1206 (3216 metric); value: 10uF; Supplier 1: Digi-Key; Supplier Part Number 1: 718-1121-1-ND
footprint 293D106X9010A2TE3 (CAP_TANT_1206)
pins: 1 Pos, 2 Neg
text: +

## Cap_10uF_1206_10V
designator C?, comment 10uF
10µF Molded Tantalum Capacitors 10V 1206 (3216 Metric) 3.4Ohm; Manufacturer: Vishay Sprague; Manufacturer PartNr: 293D106X9010A2TE3; tolerance: ±10%; Replaceable: yes; Dielectric Grade: Tantal; value: 10uF; voltage: 10V; ComponentLink1Description: mouser; ComponentLink1URL: https://www.mouser.ch/ProductDetail/Murata-Electronics/GRM32EC72A106KE05L?qs=sGAEpiMZZMs0AnBnWHyRQN7%2fAA2D2lPPRgsNRWcxCxSMn45aJ02Wig%3d%3d; Footprint/Package: 1206 (3216 metric); Supplier 1: Digi-Key; Supplier Part Number 1: 718-1121-1-ND
footprint Ceramic Capacitor 1206 - Tantal (293D106X9010A2TE3)
pins: 1 pos, 2 neg
text: +

## Cap_10uF_1210_100V
designator C?, comment 10uF
10µF ±10% 100V Ceramic Capacitor X7S 1210 (3225 Metric); Manufacturer: Murata; Manufacturer PartNr: GRM32EC72A106KE05L; voltage: 100VDC; Replaceable: yes; value: 10uF; tolerance: 10%; ComponentLink1Description: mouser; ComponentLink1URL: https://www.mouser.ch/ProductDetail/Murata-Electronics/GRM32EC72A106KE05L?qs=sGAEpiMZZMs0AnBnWHyRQN7%2fAA2D2lPPRgsNRWcxCxSMn45aJ02Wig%3d%3d; Footprint/Package: 1210 (3225 metric); Dielectric Grade: X7S; Supplier 2: Mouser; Supplier 1: Digi-Key; Supplier Part Number 2: 81-GRM32EC72A106KE05; Supplier Part Number 1: 490-16266-6-ND
footprint Ceramic Capacitor 1210 EIA
pins: 1, 2

## Cap_10uF_2220_100V
designator C?, comment 10uF
10µF ±20% 100V Ceramic Capacitor X7R 2220 (5750 Metric); Manufacturer: AVX Corporation; Manufacturer PartNr: 22201C106MAT2A; voltage: 100VDC; Replaceable: yes; Footprint/Package: 2220 (5750 Metric); ComponentLink1Description: datasheet; ComponentLink1URL: http://datasheets.avx.com/X7RDielectric.pdf; Dielectric Grade: X7R; Supplier 1: Digi-Key; Supplier Part Number  1: 478-9622-1-ND; value: 10uF; tolerance: ±20%
footprint CAPC5750X279X64LL40T39 (Chip Capacitor, 2-Leads, Body 6.1x5.4mm, IPC High Density)
footprint CAPC5750X279X64ML40T39 (Chip Capacitor, 2-Leads, Body 6.1x5.4mm, IPC Low Density)
footprint CAPC5750X279X64NL40T39 (Chip Capacitor, 2-Leads, Body 6.1x5.4mm, IPC Medium Density)
pins: 1, 2

## Cap_11pF_0402_10V
designator C?, comment Cap 11pF 10V 0402
11pF ±20% 10V Ceramic Capacitor X8R 0402 (1005 Metric); Manufacturer: KEMET; Manufacturer PartNr: C0402C110M8HAC7867; voltage: 10VDC; Replaceable: no; Footprint/Package: 0402 (1005 metric); value: 11pF; tolerance: ±20%; Dielectric Grade: X8R; Supplier 1: Digi-Key; Supplier 2: Mouser; Supplier Part Number 1: C0402C110M8HAC7867-ND; Supplier Part Number 2: 80-C0402C110M8HACTU
footprint CAPC0402(1005)60_M (Chip Capacitor, Body 1.0x0.5mm, Height 0.6mm, IPC Low Density)
footprint CAPC0402(1005)60_N (Chip Capacitor, Body 1.0x0.5mm, Height 0.6mm, IPC Medium Density)
footprint CAPC0402(1005)60_L (Chip Capacitor, Body 1.0x0.5mm, Height 0.6mm, IPC High Density)
pins: 1, 2
1 alternate drawing of the same symbol

## Cap_11pF_0402_50V
designator C?, comment 11pF
11pF ±5% 50V Ceramic Capacitor C0G, NP0 0402 (1005 Metric); Manufacturer: Murata; Manufacturer PartNr: GRM1555C1H110JA01D; voltage: 50VDC; Replaceable: yes; Dielectric Grade: C0G (NP0); value: 11pF; tolerance: 5%; Footprint/Package: 0402 (1005 metric); ComponentLink1Description: mouser; ComponentLink1URL: https://www.mouser.ch/ProductDetail/Murata-Electronics/GRM1555C1H110JA01D?qs=%2fha2pyFadug34NHqLs7eMMmZ4IY%2fB%2fBwtGmZmE%252bqlNJIuNiWKDU4cio3ILTIjZ7Z; Supplier 2: Mouser; Supplier 1: Digi-Key; Supplier Part Number 2: 81-GRM1555C1H110JA1D; Supplier Part Number 1: 490-5923-6-ND
footprint Ceramic Capacitor 0402 EIA
pins: 1, 2

## Cap_12pF_0402_50V
designator C?, comment 12pF
12pF ±2% 50V Ceramic Capacitor C0G, NP0 0402 (1005 Metric); Manufacturer: Murata; Manufacturer PartNr: GRM1555C1H120GA01D; voltage: 50VDC; Replaceable: yes; Dielectric Grade: C0G/NP0; value: 12pF; tolerance: ±2%; Footprint/Package: 0402 (1005 metric); Supplier 1: Digi-Key; Supplier Part Number 1: 490-6197-1-ND
footprint Ceramic Capacitor 0402 EIA
pins: 1, 2

## Cap_15pF_0402_50V
designator C?, comment 15pF
15pF ±1% 50V Ceramic Capacitor C0G, NP0 0402 (1005 Metric); Manufacturer: Muarata; Manufacturer PartNr: GJM1555C1H150FB01D; voltage: 50VDC; Replaceable: no; Dielectric Grade: C0G (NP0); value: 15pF; tolerance: ±1%; Footprint/Package: 0402 (1005 metric); ComponentLink1Description: digikey; ComponentLink1URL: https://www.digikey.com/product-detail/en/murata-electronics-north-america/GJM1555C1H150FB01D/490-11191-6-ND/5333833; Supplier 1: Digi-Key; Supplier Part Number 1: 490-11191-1-ND
footprint Ceramic Capacitor 0402 EIA
pins: 1, 2

## Cap_18pF_0402_50V
designator C?, comment 18pF
18pF ±1% 50V Ceramic Capacitor C0G, NP0 0402 (1005 Metric), KEMET; Manufacturer PartNr: CBR04C180F5GAC; Dielectric Grade: C0G/NP0; Replaceable: yes; Supplier 1: Digi-Key; Supplier Part Number 1: 399-8828-1-ND; Manufacturer: KEMET; Footprint/Package: 0402 (1005 metric); value: 18pF; power: -; voltage: 50V; tolerance: ±1%
footprint Ceramic Capacitor 0402 EIA
pins: 1, 2

## Cap_47uF_0805_10V
designator C?, comment 47uF
47µF ±20% 10V Ceramic Capacitor X5R 0805 (2012 Metric); Manufacturer: Murata; Manufacturer PartNr: GRM21BR61A476ME15K; voltage: 10VDC; Replaceable: yes; value: 47uF; tolerance: 20%; ComponentLink1Description: mouser; ComponentLink1URL: https://www.mouser.ch/ProductDetail/Murata-Electronics/GRM21BR61A476ME15K?qs=sGAEpiMZZMs0AnBnWHyRQFv7x1xn%252bYFd%2fKEbtsqpw9LjjzI%2fE2JjPg%3d%3d; Footprint/Package: 0805 (2012 metric); Dielectric Grade: X5R; Supplier 2: Mouser; Supplier 1: Digi-Key; Supplier Part Number 2: 81-GRM21BR61A476ME5K; Supplier Part Number 1: GRM21BR61A476ME15K-ND
footprint Ceramic Capacitor 0805 EIA
pins: 1, 2

## Cap_100nF_0402_6V3
designator C?, comment 100nF
0.1µF ±10% 6.3V Ceramic Capacitor X7R 0402 (1005 Metric); Manufacturer: Yageo; Manufacturer PartNr: CC0402KRX7R5BB104; Replaceable: yes; volatage: 6.3VDC; Dielectric Grade: X7R; Footprint/Package: 0402 (1005 metric); Supplier 1: Digi-Key; Supplier Part Number 1: 311-1701-1-ND; value: 100nF; tolerance: ±10%
footprint Ceramic Capacitor 0402 EIA
pins: 1, 2

## Cap_100nF_0402_10V
designator C?, comment 100nF
0,1µF ±10% 10V Keramikkondensatoren X7R 0402 (1005 metrisch); Manufacturer: Samsung; Manufacturer PartNr: CC0402KRX7R6BB104; Replaceable: yes; volatage: 10VDC; Dielectric Grade: X7R; Footprint/Package: 0402 (1005 metric); Supplier 1: Digi-Key; Supplier Part Number 1: 1276-1002-1-ND; value: 100nF
footprint Ceramic Capacitor 0402 EIA
pins: 1, 2

## Cap_100pF_0201_50V
designator C?, comment 100pF
100pF ±5% 50V Ceramic Capacitor C0G, NP0 0201 (0603 Metric); Manufacturer: Murata; Manufacturer PartNr: GRM0335C1H101JA01D; voltage: 50VDC; Supplier 1: Digi-Key; Supplier Part Number 1: 490-6113-2-ND; Footprint/Package: 0201 (0603 metric); value: 100pF; tolerance: 5%; Dielectric: C0G; Radiation Hardening: no; ComponentLink1URL: http://search.murata.co.jp/Ceramy/image/img/A01X/G101/ENG/GRM0335C1H101JA01-01.pdf; ComponentLink1Description: http://search.murata.co.jp/Ceramy/image/img/A01X/G101/ENG/GRM0335C1H101JA01-01.pdf; ComponentLink2URL: https://www.verical.com/server-webapp/html/getDatasheet?partID=745940; ComponentLink2Description: https://www.verical.com/server-webapp/html/getDatasheet?partID=745940
pins: 1, 2

## Cap_100pF_0402_10V
designator C?, comment 100pF
100pF ±5% 10V Keramikkondensatoren C0G, NP0 0402 (1005 metrisch); Manufacturer: Yageo; Manufacturer PartNr: 885012005013; voltage: 10VDC; Replaceable: yes; Dielectric Grade: C0G/NP0; value: 100pF; tolerance: ±5%; Footprint/Package: 0402 (1005 metric); Supplier 1: Digi-Key; Supplier Part Number 1: 732-7431-1-ND
footprint Ceramic Capacitor 0402 EIA
pins: 1, 2

## Cap_100uF_1210_6.3V
designator C?, comment 100uF
100µF ±20% 6.3V Ceramic Capacitor X5R 1206 (3216 Metric); Manufacturer: Murata; Manufacturer PartNr: GRM31CR60J107ME39L; Replaceable: yes; Dielectric Grade: X7S; value: 100uF; tolerance: 20%; voltage: 6.3V; ComponentLink1Description: mouser; ComponentLink1URL: https://www.mouser.ch/ProductDetail/Murata-Electronics/GRM32EC72A106KE05L?qs=sGAEpiMZZMs0AnBnWHyRQN7%2fAA2D2lPPRgsNRWcxCxSMn45aJ02Wig%3d%3d; Footprint/Package: 1210 (3225 metric); Supplier 1: Digi-Key; Supplier Part Number 1: 490-4539-1-ND
footprint Ceramic Capacitor 1210 EIA
pins: 1, 2

## Cap_100uF_1210_10V
designator C?, comment 100uF
100µF ±20% 10V Ceramic Capacitor X5R 1210 (3225 Metric); Manufacturer: Murata; Manufacturer PartNr: GRM32ER61A107ME20L; Replaceable: yes; voltage: 10VDC; value: 100uF; Dielectric Grade: X5R; Footprint/Package: 1210 (3225 metric); Supplier 1: Digi-Key; Supplier Part Number 1: 490-9969-1-ND; tolerance: ±20%
footprint CAP-1210[3225] - RFL (SMD Chip 1210  - CAP - RFL)
footprint CAP-1210[3225] (SMD Chip 1210 - CAP)
pins: 1 Pos, 2 Neg

## Cap_130pF_0402_50V
designator C?, comment 130pF
130pF ±5% 50V Ceramic Capacitor C0G, NP0 0402 (1005 Metric); Manufacturer: Murata; Manufacturer PartNr: GRM1555C1H131JA01D; voltage: 50V DC; Dielectric Grade: C0G/NP0; Replaceable: yes; Supplier 1: Digi-Key; Supplier Part Number 1: 490-3228-1-ND; Footprint/Package: 0402 (1005 metric); value: 130pF; tolerance: ±5%; power: -; ComponentLink1URL: http://www.mouser.com/ds/2/281/c02e-2905.pdf; ComponentLink1Description: http://www.mouser.com/ds/2/281/c02e-2905.pdf; ComponentLink2URL: https://www.murata.com/~/media/webrenewal/support/library/catalog/products/capacitor/mlcc/c02e.ashx?la=en-us; ComponentLink2Description: https://www.murata.com/~/media/webrenewal/support/library/catalog/products/capacitor/mlcc/c02e.ashx?la=en-us; ComponentLink3URL: http://psearch.murata.com/capacitor/product/GRM1555C1H131JA01%23.pdf; ComponentLink3Description: http://psearch.murata.com/capacitor/product/GRM1555C1H131JA01%23.pdf; ComponentLink4URL: https://www.murata.com/~/media/webrenewal/support/library/catalog/products/capacitor/mlcc/c02e.ashx; ComponentLink4Description: https://www.murata.com/~/media/webrenewal/support/library/catalog/products/capacitor/mlcc/c02e.ashx
footprint Ceramic Capacitor 0402 EIA
pins: 1, 2

## Cap_130pF_0805 _50V
designator C?, comment 130pF
130pF ±5% 50V Ceramic Capacitor C0G, NP0 0805 (2012 Metric); Manufacturer: KEMET; Manufacturer PartNr: C0805C131J5GAC7800; voltage: 50V DC; Dielectric Grade: C0G/NP0; Replaceable: yes; Supplier 1: Digi-Key; Supplier Part Number 1: 399-15446-1-ND; Footprint/Package: 0805 (2012 metric); value: 130pF; tolerance: ±5%; power: -
footprint Ceramic Capacitor 0805 EIA
pins: 1, 2

## Cap_270pF_0402_10V
designator C?, comment 270pF
270pF ±20% 10V Ceramic Capacitor X7R 0402 (1005 Metric); Manufacturer: Vishay / Vitramon; Manufacturer PartNr: VJ0402Y271MXQPW1BC; voltage: 10VDC; Replaceable: yes; value: 270pF; tolerance: 20%; ComponentLink1Description: mouser; ComponentLink1URL: https://www.mouser.ch/ProductDetail/Vishay-Vitramon/VJ0402Y271MXQPW1BC?qs=sGAEpiMZZMs0AnBnWHyRQGuekufMepD5hIxY33Q3750%3d; Footprint/Package: 0402 (1005 metric); Dielectric Grade: X7R; Supplier 2: Mouser; Supplier 1: Digi-Key; Supplier Part Number 2: 77-VJ0402Y271MXQPBC; Supplier Part Number 1: VJ0402Y271MXQPW1BC-ND
footprint Ceramic Capacitor 0402 EIA
pins: 1, 2

## Cap_470nF_0805_100V
designator C?, comment 470nF
470nF, 100V, X7R, 10 %, Chip Monolithic Ceramic Capacitor for General, 0805 (metric 2012); Manufacturer: Murata; Manufacturer PartNr: GRM21BR72A474KA73L; voltage: 100VDC; Replaceable: yes; tolerance: 10 %; Supplier 2: Mouser; Supplier Part Number 2: 81-GRM21BR72A474KA73; Dielectric Grade: X7R; Footprint/Package: 0805 (metric 2012); value: 470nF; Supplier 1: Digi-Key; Supplier Part Number 1: 490-3326-1-ND
footprint CAP-0805[2012] - RFL (SMD Chip 0805 - CAP - RFL)
footprint CAP-0805[2012] (SMD Chip 0805 - CAP)
pins: 1 Pos, 2 Neg

## Cap_470pF_0402_16V
designator C?, comment 470pF
470pF ±10% 16V Ceramic Capacitor X7R 0402 (1005 Metric); Manufacturer: AVX Corporation; Manufacturer PartNr: 0402YC471KAT2A; voltage: 16VDC; Replaceable: yes; value: 470pF; tolerance: 10%; ComponentLink1Description: mouser; ComponentLink1URL: https://www.mouser.ch/ProductDetail/Murata-Electronics/GRM155R61A472KA01D?qs=sGAEpiMZZMs0AnBnWHyRQJuLogdu9bcTuSYPL0o17LI%3d; Footprint/Package: 0402 (1005 metric); Dielectric Grade: X7R; Supplier 1: Digi-Key; Supplier Part Number 1: 478-12657-1-ND
footprint Ceramic Capacitor 0402 EIA
pins: 1, 2

## Cap_820pF_0402_50V
designator C?, comment 820pF
820pF ±5% 50V Ceramic Capacitor C0G, NP0 0402 (1005 Metric); Manufacturer: Muarata Electronics; Manufacturer PartNr: GRM1555C1H821JA01J; voltage: 50 VDC; Replaceable: no; Dielectric Grade: C0G/NP0; value: 820pF; tolerance: ±5%; Footprint/Package: 0402 (1005 metric); ComponentLink1Description: digikey; ComponentLink1URL: https://www.digikey.com/product-detail/en/murata-electronics-north-america/GJM1555C1H150FB01D/490-11191-6-ND/5333833; Supplier 1: Digi-Key; Supplier Part Number 1: 490-11407-1-ND
footprint Ceramic Capacitor 0402 EIA
pins: 1, 2

## Cap_4700pF_0402_10V
designator C?, comment 4700pF
4700pF, 4.7nF, ±10% 10V Ceramic Capacitor X5R 0402 (1005 Metric); Manufacturer: Murata; Manufacturer PartNr: GRM155R61A472KA01D; voltage: 10VDC; Replaceable: yes; value: 4700pF; tolerance: 10%; ComponentLink1Description: mouser; ComponentLink1URL: https://www.mouser.ch/ProductDetail/Murata-Electronics/GRM155R61A472KA01D?qs=sGAEpiMZZMs0AnBnWHyRQJuLogdu9bcTuSYPL0o17LI%3d; Footprint/Package: 0402 (1005 metric); Dielectric Grade: X5R; Supplier 2: Mouser; Supplier 1: Digi-Key; Supplier Part Number 1: 490-8254-6-ND; Supplier Part Number 2: 81-GRM155R61A472KA1D
footprint Ceramic Capacitor 0402 EIA
pins: 1, 2

## Cap_DNP_0402
designator C?, comment DNP
Do not place 0402  (1005 metric) - placeholder; Replaceable: no; value: DNP; tolerance: *; voltage: *; Dielectric Grade: *; Manufacturer: N/A; Manufacturer PartNr: N/A; Footprint/Package: 0402 (1005 metric); Supplier 1: N/A; Supplier Part Number 1: N/A; Remark: do not place
footprint Ceramic Capacitor 0402 EIA
pins: 1, 2

## Cap_DNP_0603
designator C?, comment DNP
Do not place 0603  (1608 metric) - placeholder; Replaceable: no; value: DNP; tolerance: *; voltage: *; Dielectric Grade: *; Manufacturer: N/A; Manufacturer PartNr: N/A; Footprint/Package: 0603 (1608 metric); Supplier 1: N/A; Supplier Part Number 1: N/A; Remark: do not place
footprint Ceramic Capacitor 0603 EIA
pins: 1, 2

## Cap_DNP_0805
designator C?, comment DNP
Do not place 0805 (2012 metric) - placeholder; Replaceable: no; value: DNP; tolerance: *; voltage: *; Dielectric Grade: *; Manufacturer: N/A; Manufacturer PartNr: N/A; Footprint/Package: 0805 (2012 metric); Supplier 1: N/A; Supplier Part Number 1: N/A; Remark: do not place
footprint Ceramic Capacitor 0805 EIA
pins: 1, 2

## CONN_1x2_M50-3530242
designator P?, comment M50-3530242  (net tie)
2 Pin, 1 Row, Jumper, 1.27mm; Manufacturer: Harwin; Replaceable: yes; Footprint/Package: 1.27mm; ComponentLink1Description: digikey; ComponentLink1URL: https://www.digikey.com/product-detail/en/harwin-inc/M50-3530242/952-3598-ND/7044013; Supplier1: digikey; Supplier Part Number 1: 952-3598-ND; Dielectric Grade: -; power: -; voltage: -; value: M50-3530242; tolerance: -; Manufacturer PartNr: M50-3530242
footprint CONN_2x01_Harwin (Connector Header, vertical, 2 Pos, Pitch 1.27mm)
pins: 1, 2

## CONN_1X03_BBL-103-G-E
designator P?, comment CONN_1X03  Manufacturer PartNr: BBL-103-G-E  (net tie)
Headers & Wire Housings .100" Low Profile Single Row, Screw Machine Terminal Strip; Manufacturer: Samtec; Replaceable: no; Footprint/Package: 2.54mm; ComponentLink1Description: mouser; ComponentLink1URL: https://www.mouser.ch/ProductDetail/Harwin/M50-3630342?qs=sGAEpiMZZMs%252bGHln7q6pm8Vn94ktop%2fJJXqVipEXDKohcoO0QNXTaw%3d%3d
footprint CONN-1X03_BBL-103-G-E (Headers & Wire Housings .100" Low Profile Single Row, Screw Machine Terminal Strip)
pins: 1, 2, 3

## CONN_1X03_M50-3030342
designator P?, comment CONN_1X03  Manufacturer PartNr: M50-3030342
Sockel & Kabelgehäuse 3 WAY SIL VERT PC TAIL SKT; Manufacturer: Archer; Replaceable: no; Footprint/Package: 1.27 mm; Supplier 1: Mouser; ComponentLink1Description: mouser; ComponentLink1URL: https://www.mouser.ch/ProductDetail/Harwin/M50-3030342?qs=%2fha2pyFaduiRpn7Sn9fWVp%252bNpdzGcgnS82sSCZLLu%2fUjQZVEB%252bIkNw%3d%3d; Supplier Part Number 1: 855-M50-3030342
footprint CONN_1X03 (Connector; Header; 3 Position)
pins: 1, 2, 3

## CONN_1X03_M50-3630342
designator P?, comment CONN_1X03  Manufacturer PartNr: M50-3630342  (net tie)
Sockel & Kabelgehäuse 3 WAY SIL VERT PC TAIL SKT; Replaceable: no; Footprint/Package: 2.54mm; Supplier 1: Mouser; Supplier 2: Digi-Key; Supplier Part Number 2: M50-3630342R-ND; Supplier Part Number 1: 855-M50-3630342R; ComponentLink1Description: mouser; ComponentLink1URL: https://www.mouser.ch/ProductDetail/Harwin/M50-3630342?qs=sGAEpiMZZMs%252bGHln7q6pm8Vn94ktop%2fJJXqVipEXDKohcoO0QNXTaw%3d%3d
footprint M50-3630342
pins: 1, 2, 3

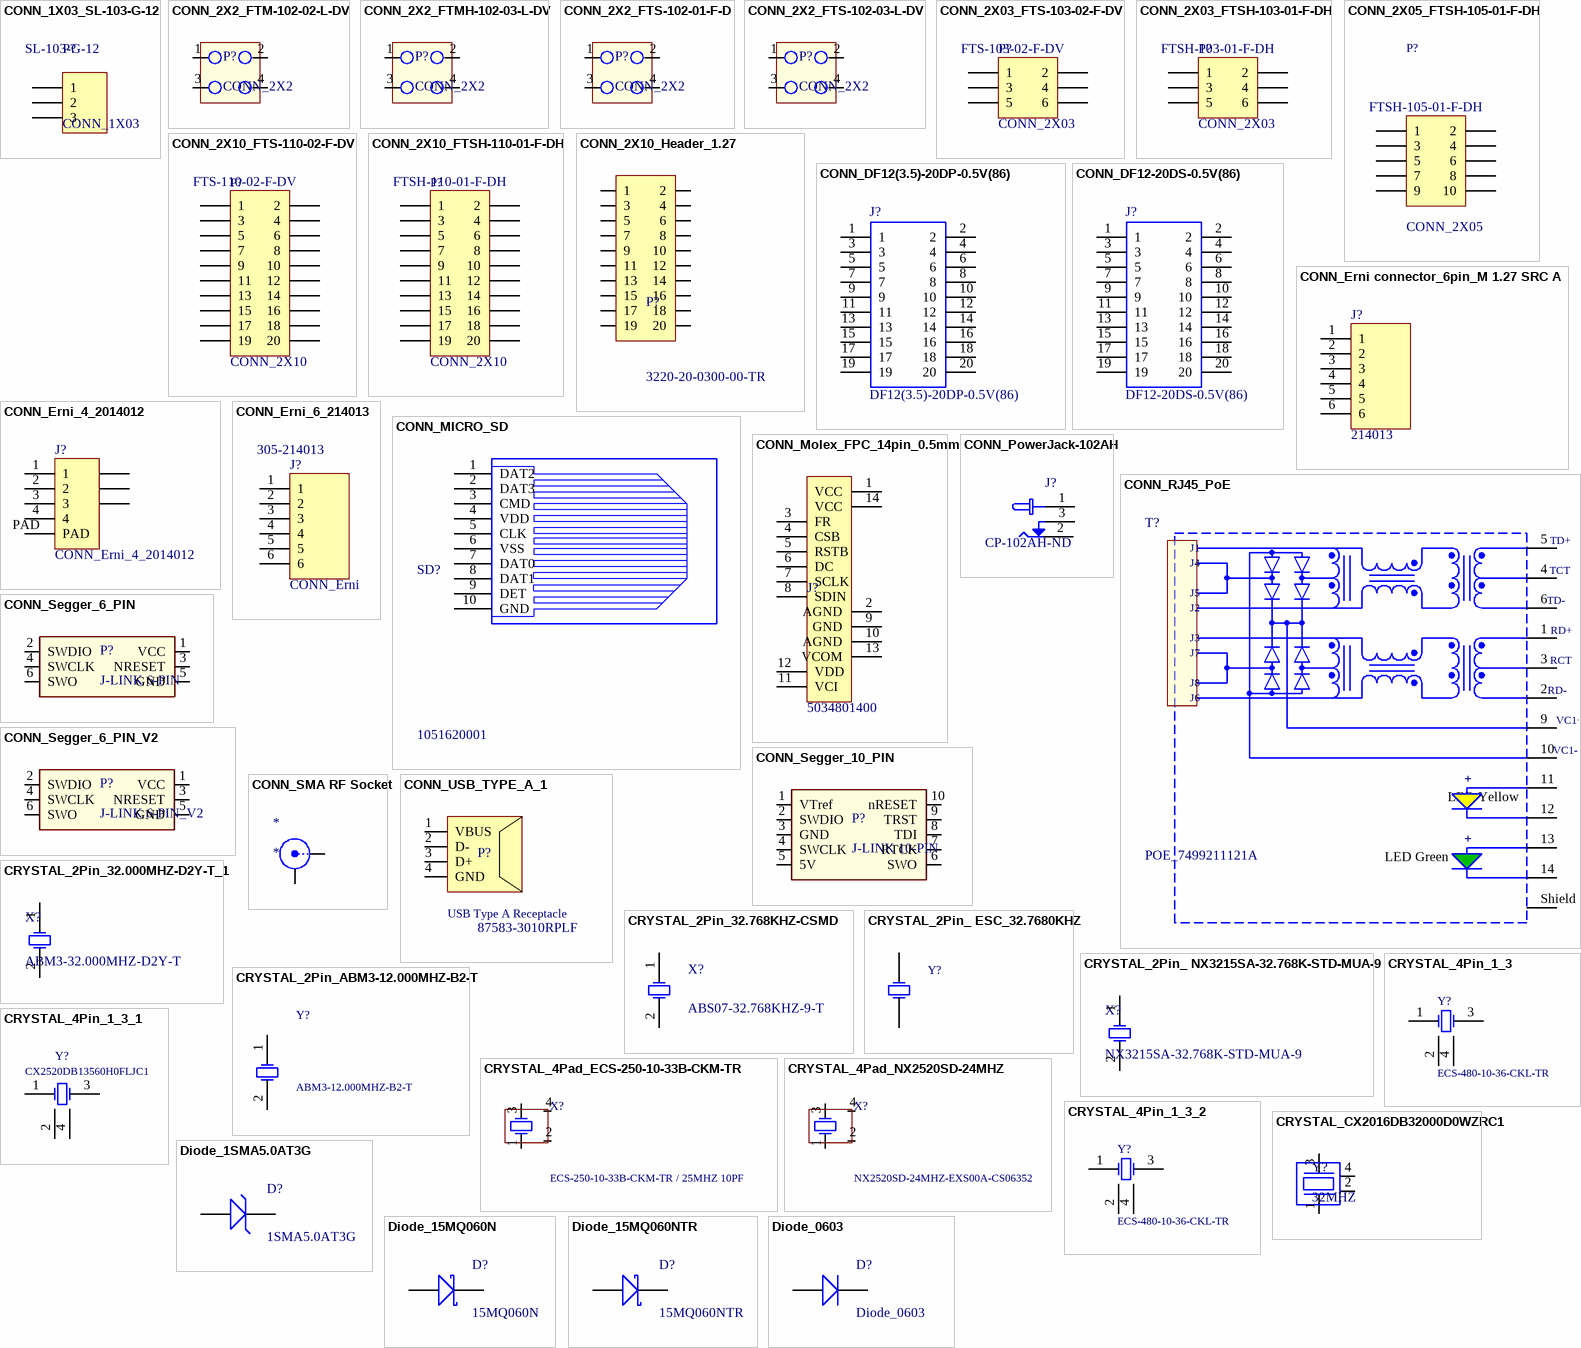
[diagram p2: symbols CONN_1X03_SL-103-G-12 to Diode_0603]

## CONN_1X03_SL-103-G-12
designator P?, comment CONN_1X03  Manufacturer PartNr: SL-103-G-12
3 Positionen, Buchsenleiste, Steckverbinder, 0,100" (2,54 mm), Durchkontaktierung, Gold; Manufacturer: Samtec; Replaceable: no; Footprint/Package: 2.54 mm; ComponentLink1Description: mouser; ComponentLink1URL: https://www.mouser.ch/ProductDetail/Samtec/BBL-103-G-E?qs=sGAEpiMZZMs%252bGHln7q6pm5ZHNJhTjtr3eyJKd0ZImQM%3d; Supplier 1: Digi-Key; Supplier 2: Mouser; Supplier 3: Farnell; Supplier Part Number 1: SAM1104-03-ND; Supplier Part Number 2: 200-SL103G12; Supplier Part Number 3: 2019491
footprint CONN-1X03_F (Connector; Header; 3 Position, Female)
pins: 1, 2, 3

## CONN_2X2_FTM-102-02-L-DV
designator P?, comment CONN_2X2
Connector Header Surface Mount 4 position 0.039" (1.00mm); Manufacturer: Samtec; Manufacturer PartNr: FTM-102-02-L-DV; Replaceable: no; value: CON SMD 4POS 1MM; Footprint/Package: 0.039" (1.00mm); Supplier 1: Digi-Key; Supplier Part Number 1: SAM15173-ND; Datasheet Link: http://suddendocs.samtec.com/prints/ftm-1xx-xx-xx-dv-xx-footprint.pdf
footprint FTM-102-02-L-DV (CONN HEADER SMD 4POS 1.00MM)
pins: 1, 2, 3, 4

## CONN_2X2_FTMH-102-03-L-DV
designator P?, comment CONN_2X2
4 Positionen, Steckleiste, kürzbar Steckverbinder, 0.039" (1mm), Oberflächenmontage, Gold; Manufacturer: Samtec; Mnaufacturer PartNr: FTS-102-03-L-DV; Replaceable: no; Footprint/Package: *; Supplier 1: Digi-Key; Supplier Part Number 1: SAM1159-02-ND
footprint FTMH-102-03-L-DV (CONN HEADER SMD 4POS 1MM)
pins: 1, 2, 3, 4

## CONN_2X2_FTS-102-01-F-D
designator P?, comment CONN_2X2
Connector Header Through Hole 4 position 0.050" (1.27mm); Manufacturer: Samtec; Mnaufacturer PartNr: FTS-102-03-L-DV; Replaceable: no; Footprint/Package: *; Supplier 1: Digi-Key; Supplier Part Number 1: SAM1159-02-ND
footprint FTS-102-01-F-D (CONN HEADER SMD 4POS 1.27 MM THROUGH HOLE)
pins: 1, 2, 3, 4